# Altium schematic symbol library ldo.SchLib: 2 symbols
Pins are listed as number, name and electrical type; pins without a type are passive.

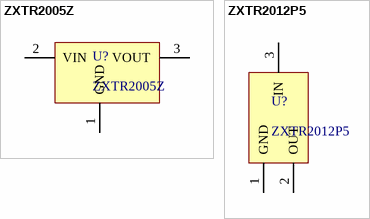
[diagram p0: symbols ZXTR2005Z to ZXTR2012P5]

## ZXTR2005Z
designator U?
100V INPUT, 5V 30mA REGULATOR TRANSISTOR; Supplier 1: Digi-Key; Supplier Part Number 1: ZXTR2005Z-13DICT-ND
footprint SOT89 (SOT89, 3-Leads, Body 4.50x2.45mm, Pitch 1.50mm, Lead Span 4.1mm, IPC Medium Density)
pins: 1 GND, 2 VIN, 3 VOUT

## ZXTR2012P5
designator U?
100V INPUT, 12V 40mA REGULATOR TRANSISTOR; Supplier 1: Digi-Key; Supplier Part Number 1: ZXTR2012P5-13DICT-ND
footprint PowerDI-5 (PowerDI-5 from diode inc)
pins: 1 GND, 2 OUT, 3 IN